# Altium schematic symbol library tpsm84209rkht.SchLib: 1 symbol
Pins are listed as number, name and electrical type; pins without a type are passive.

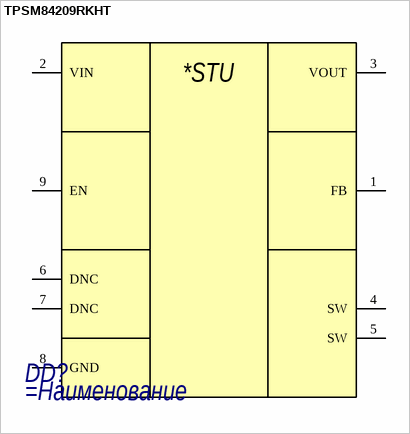
[diagram p0: symbol TPSM84209RKHT]

## TPSM84209RKHT
designator DD?
=Описание
pins: 1 FB, 2 VIN, 3 VOUT, 4 SW, 5 SW, 6 DNC, 7 DNC, 8 GND, 9 EN
text: *STU